# Altium schematic symbol library SnapEDAsch.SchLib: 1 symbol
Pins are listed as number, name and electrical type; pins without a type are passive.

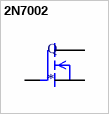
[diagram p0: symbol 2N7002]

## 2N7002
designator Q
N-Channel 60V 200mA _Tc_ 350mW _Tc_ Surface Mount SOT-23-3; MP: 2N7002; MF: STMicroelectronics; Price: None; Package: SOT-23-3 Vishay; Value: *; Availability: Unavailable; SnapEDA_Link: https://www.snapeda.com/parts/2N7002/STMicroelectronics/view-part/2885412/?ref=snap
footprint SOT23
pins: 1 G, 2 S, 3 D